# Altium footprint library DOME_Pcblib.PcbLib: 8 footprints
Each footprint in its own frame and in the unit in brackets; x right, y up, seen from the top. Pads: shape width x height; smd on the part's side, far side on the other; paste and mask are expansions set on the pad; w line width, h text height; cw(c..) or ccw(c..) is an arc to the next point about the centre after c.
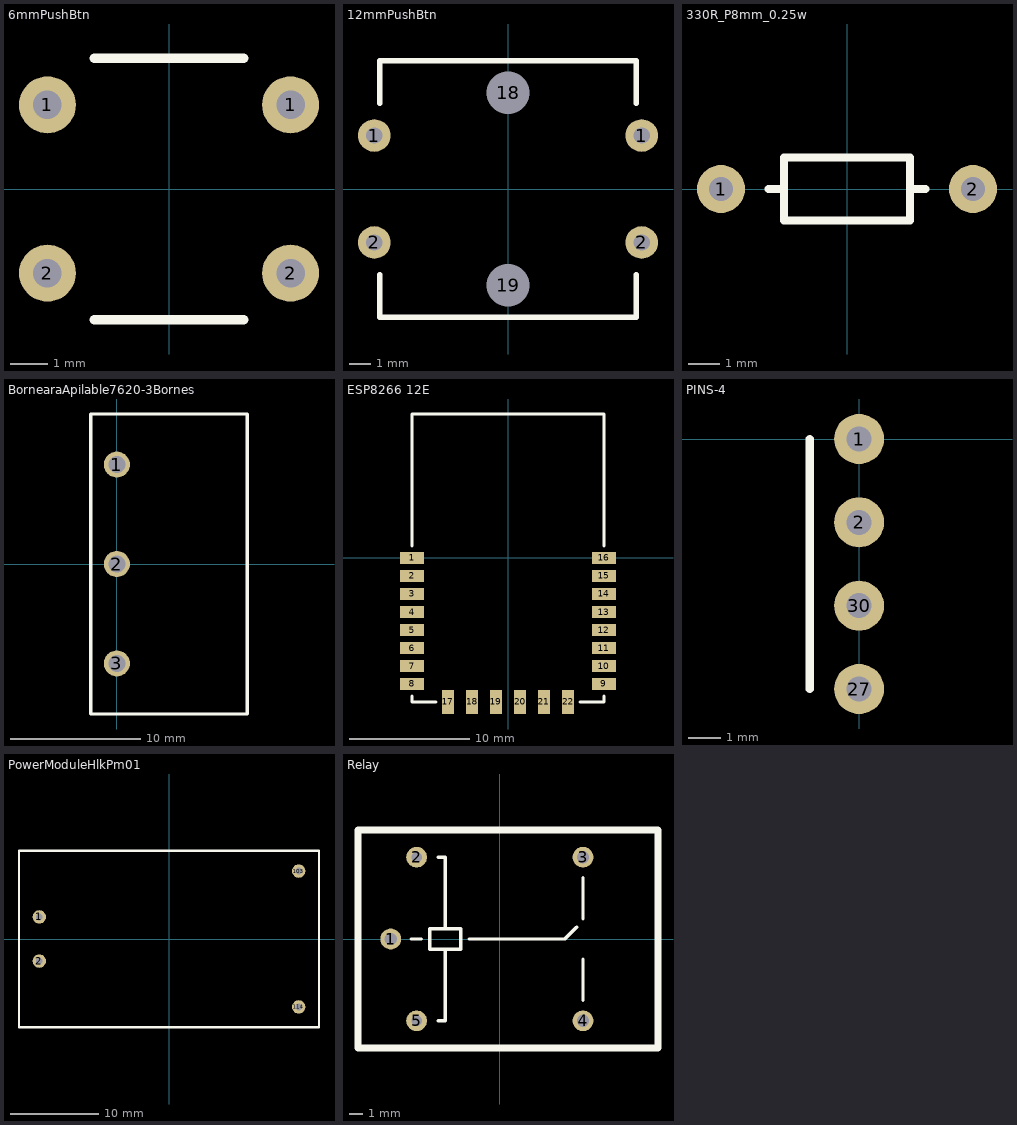
[diagram p0: the footprints below, top view; thin cyan lines are the x and y axes]

## 6mmPushBtn [mil]
pads (4):
  round 60 hole 30: 1(-127.95,88.58) 1(127.95,88.58) 2(-127.95,-88.58) 2(127.95,-88.58)
Top Overlay:
  lines w10: -78.74,-137.8 78.74,-137.8 ; -78.74,137.8 78.74,137.8

## 12mmPushBtn [mil]
pads (6):
  round 60 hole 30: 1(-246.06,98.43) 1(246.06,98.43) 2(-246.06,-98.43) 2(246.06,-98.43)
  round 60 hole 78.74: 18(0,177.17) 19(0,-177.17)
Top Overlay:
  lines w10: -236.22,-157.48 -236.22,-236.22 236.22,-236.22 236.22,-157.48 ; -236.22,157.48 -236.22,236.22 236.22,236.22 236.22,157.48

## 330R_P8mm_0.25w [mil]
pads (2):
  round 60 hole 30: 1(-157.48,0) 2(157.48,0)
Top Overlay:
  lines w10: -98.43,0 -78.74,0 ; 78.74,0 98.43,0 ; -78.74,0 -78.74,-39.37 78.74,-39.37 78.74,39.37 -78.74,39.37 -78.74,0

## BornearaApilable7620-3Bornes [mm]
pads (3):
  round 2 hole 1.3: 1(0,7.62) 2(0,0) 3(0,-7.62)
Top Overlay:
  lines w0.254: -2,-11.5 10,-11.5 10,11.5 -2,11.5 -2,-11.5

## ESP8266 12E [mm]
pads (22):
  rect 2x1 smd: 1(-8,0) 2(-8,-1.5) 3(-8,-3) 4(-8,-4.5) 5(-8,-6) 6(-8,-7.5) 7(-8,-9) 8(-8,-10.5) 9(8,-10.5) 10(8,-9) 11(8,-7.5) 12(8,-6) 13(8,-4.5) 14(8,-3) 15(8,-1.5) 16(8,0)
  rect 1x2 smd: 17(-5,-12) 18(-3,-12) 19(-1,-12) 20(1,-12) 21(3,-12) 22(5,-12)
Top Overlay:
  lines w0.254: -8,-11.5 -8,-12 -6,-12 ; -8,1 -8,12 8,12 8,1 ; 6,-12 8,-12 8,-11.5

## PINS-4 [mil]
pads (4):
  round 60 hole 30: 1(0,0) 2(0,-100) 27(0,-300) 30(0,-200)
Top Overlay:
  lines w10: -59.06,-300 -59.06,0

## PowerModuleHlkPm01 [mil]
pads (4):
  round 60 hole 30: 1(-578.74,98.43) 2(-578.74,-98.43) 103(578.74,303.15) 114(578.74,-303.15)
Top Overlay:
  lines w10: -669.29,-393.7 -669.29,393.7 669.29,393.7 669.29,-393.7 -669.29,-393.7

## Relay [mm]
pads (5):
  round 1.524 hole 0.9: 1(-8,0) 3(6.1,6) 4(6.1,-6)
  round 1.524 hole 0.762: 2(-6.1,6) 5(-6.1,-6)
Top Overlay:
  lines w0.254: -6.5,0 -5.75,0 ; -4.5,-6 -4,-6 -4,-0.75 ; -4.5,6 -4,6 -4,0.75 ; -2.25,0 4.75,0 5.625,0.875 ; 6.1,-4.5 6.1,-1.5 ; 6.1,1.5 6.1,4.5 ; -5.125,-0.75 -2.875,-0.75 -2.875,0.75 -5.125,0.75 -5.125,-0.75
  lines w0.5: -10.4,-8 11.6,-8 11.6,8 -10.4,8 -10.4,-8